# EAGLE library part SN74CBT3253CPWR (library SN74CBT3253CPWR)
Dual 1-Of-4 FET Multiplexer/Demultiplexer with -2 V Undershoot-Protection Source: Datasheet <http://www.ti.com/lit/gpn/sn74cbt3253c>
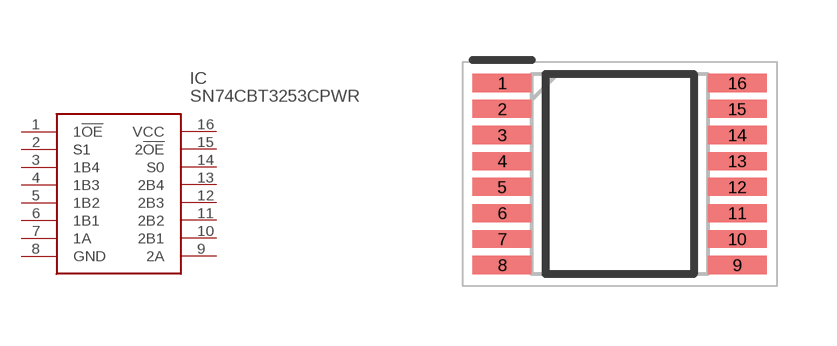
[diagram p0: symbol with the pads of SOP65P640X120-16N; footprint SOP65P640X120-16N]

Designator prefix IC

## SN74CBT3253CPWR (Arrow_Part_Number: SN74CBT3253CPWR; Arrow_Price-Stock: https://www.arrow.com/en/products/sn74cbt3253cpwr/texas-instruments; Description: Dual 1-Of-4 FET Multiplexer/Demultiplexer with -2 V Undershoot-Protection; Height: 1.2mm; Manufacturer_Name: Texas Instruments; Manufacturer_Part_Number: SN74CBT3253CPWR; Mouser_Part_Number: 595-SN74CBT3253CPWR; Mouser_Price-Stock: https://www.mouser.co.uk/ProductDetail/Texas-Instruments/SN74CBT3253CPWR?qs=mE33ZKBHyE6I49B8KhfjUg%3D%3D)  [SOP65P640X120-16N]
1  1!OE
2  S1
3  1B4
4  1B3
5  1B2
6  1B1
7  1A
8  GND
9  2A
10  2B1
11  2B2
12  2B3
13  2B4
14  S0
15  2!OE
16  VCC

## Footprint SOP65P640X120-16N (pad centres in mm)
SN74CBT3253CPWR-1
smd 1.475 x 0.45: 1 -2.938,2.275; 2 -2.938,1.625; 3 -2.938,0.975; 4 -2.938,0.325; 5 -2.938,-0.325; 6 -2.938,-0.975; 7 -2.938,-1.625; 8 -2.938,-2.275; 9 2.938,-2.275; 10 2.938,-1.625; 11 2.938,-0.975; 12 2.938,-0.325; 13 2.938,0.325; 14 2.938,0.975; 15 2.938,1.625; 16 2.938,2.275